# EAGLE library part ACCELEROMETER (library ZMPLC)
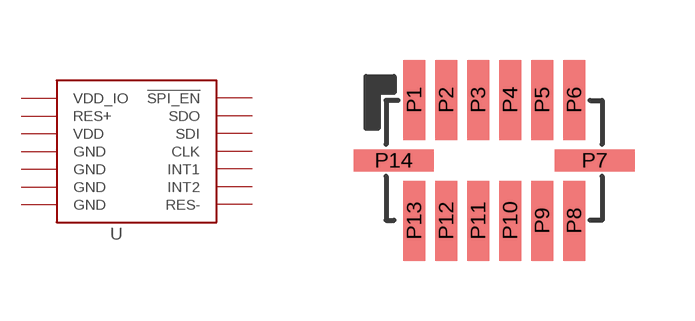
[diagram p12: symbol with the pads of LGA14; footprint LGA14]

Designator prefix -

## ACCELEROMETER  [LGA14]
P1  VDD_IO  pwr
P2  GND  pwr
P3  RES+  pwr
P4  GND  pwr
P5  GND  pwr
P6  VDD  pwr
P7  !SPI_EN!
P8  INT1
P9  INT2
P10  GND  pwr
P11  RES-  pwr
P12  SDO
P13  SDI
P14  CLK

## Footprint LGA14 (pad centres in mm)
smd 0.55 x 2: P1 -2,1.512; P2 -1.2,1.512; P3 -0.4,1.512; P4 0.4,1.512; P5 1.2,1.512; P6 2,1.512; P8 2,-1.512; P9 1.2,-1.512; P10 0.4,-1.512; P11 -0.4,-1.512; P12 -1.2,-1.512; P13 -2,-1.512
smd 2 x 0.55: P7 2.513,0; P14 -2.513,0